# EAGLE library part AE45133H-1040 (library saw-filters-narrowband)
AE45133H-1040 Параметр Ед. изм. Мин. значение Тип. значение Макс. значение Центральная частота МГц 1039 1040 1041 Минимальное вносимое затухание дБ - 3 3.5 Полоса среза по уровню -1 дБ МГц 18.5 19 - Полоса среза по уровню -25 дБ МГц - 49 - Неравномерность АЧХ дБ - 0.9 1 Групповое время задержки нс - - - Гарантированное затухание дБ - 45 - Температурный диапазон °C -55 22 +85 Материал подложки - - Танталат лития 36 -
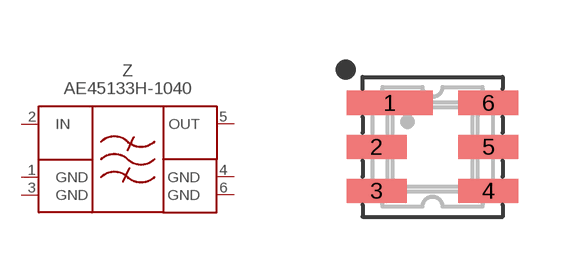
[diagram p90: symbol with the pads of DCC6; footprint DCC6]

Designator prefix Z

## AE45133H-1040  [DCC6]
1  GND  pwr
2  IN  in
3  GND  pwr
4  GND  pwr
5  OUT  out
6  GND  pwr

## Footprint DCC6 (pad centres in mm)
smd 2.15 x 0.6: 1 -1.075,1.1
smd 1.5 x 0.6: 2 -1.4,0; 3 -1.4,-1.1; 4 1.4,-1.1; 5 1.4,0; 6 1.4,1.1